# Altium footprint library ICs.PcbLib: 32 footprints (part 2 of 2)
Each footprint in its own frame and in the unit in brackets; x right, y up, seen from the top. Pads: shape width x height; smd on the part's side, far side on the other; paste and mask are expansions set on the pad; w line width, h text height; cw(c..) or ccw(c..) is an arc to the next point about the centre after c.
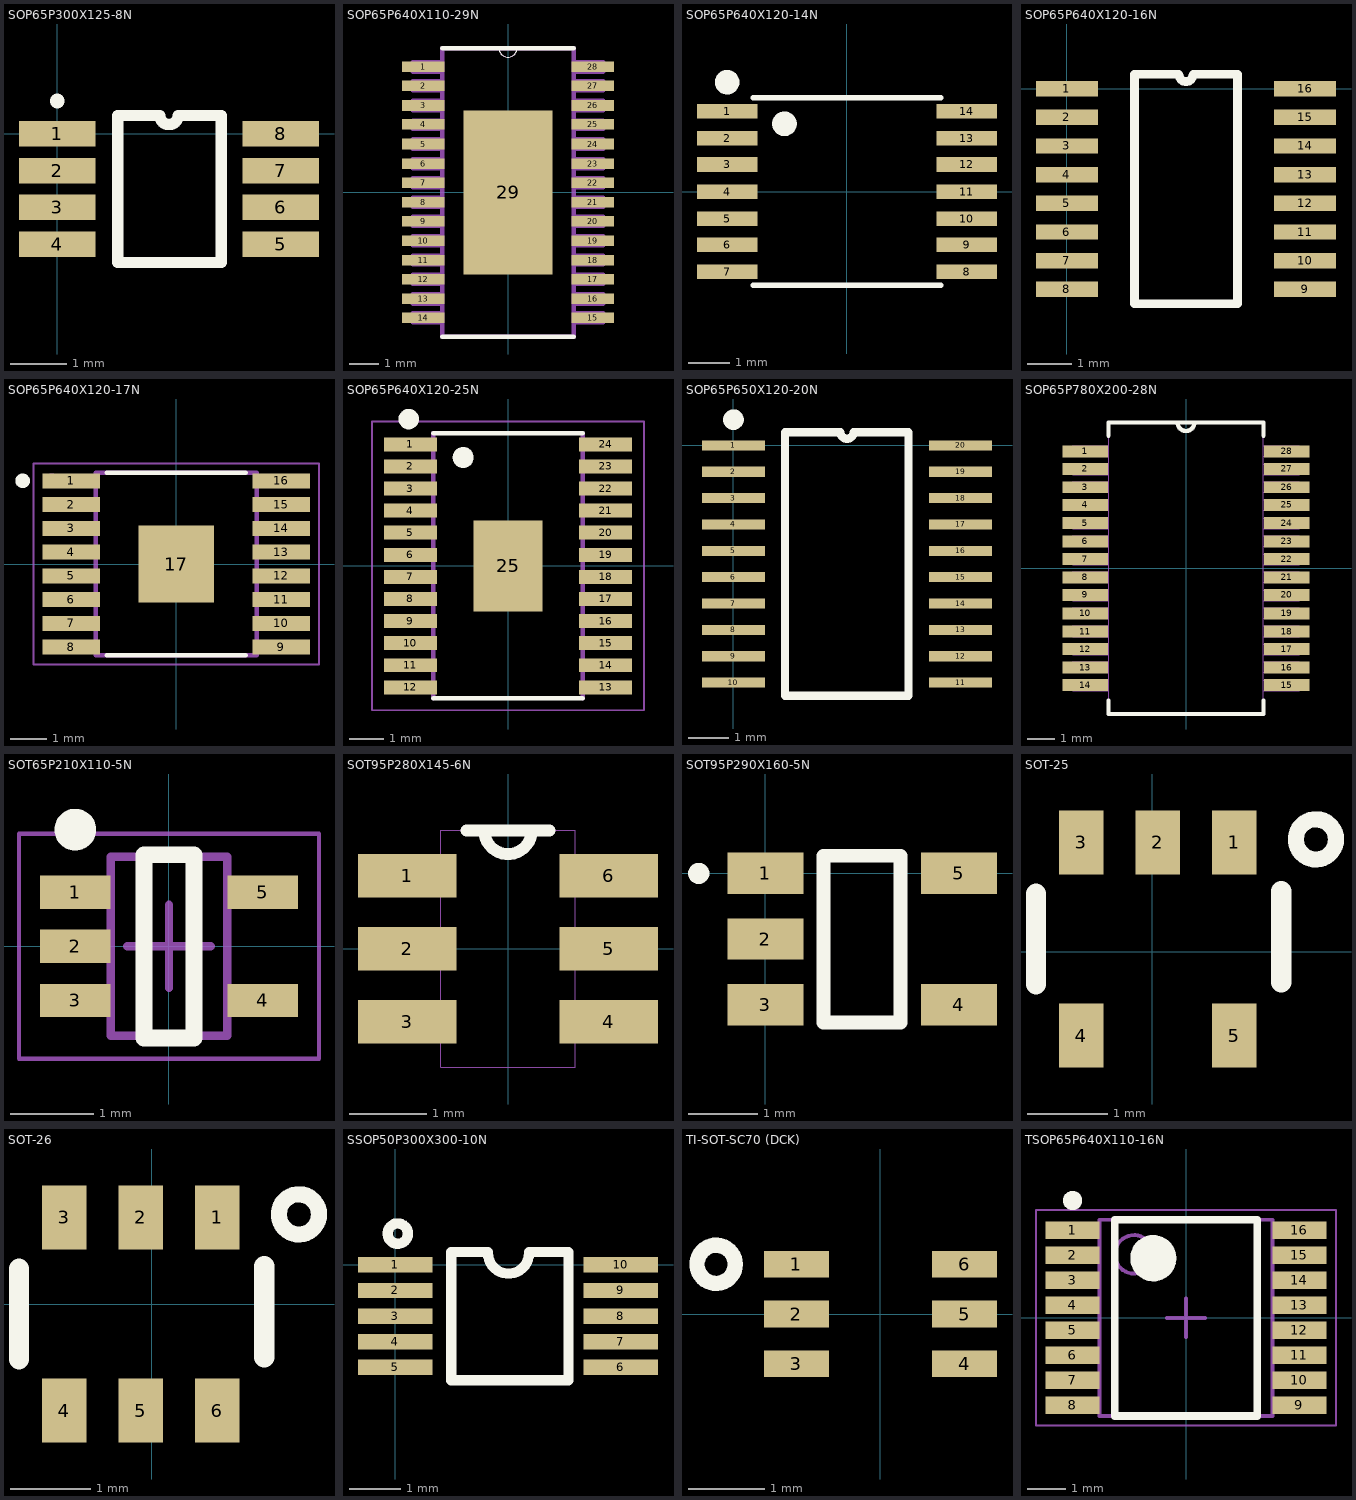
[diagram p1: the footprints below, top view; thin cyan lines are the x and y axes]

## SOP65P300X125-8N [mm] "SOP + Pitch P + Lead Span Nominal X Height - #Pins"
height 1.25
pads (8):
  rect 1.35x0.45 smd: 1(0,0) 2(0,-0.65) 3(0,-1.3) 4(0,-1.95) 5(3.95,-1.95) 6(3.95,-1.3) 7(3.95,-0.65) 8(3.95,0)
Top Overlay:
  lines w0.2: 1.067,-2.275 1.067,0.325 1.813,0.325 ccw(c1.975,0.325) 2.137,0.325 2.896,0.325 2.896,-2.275 1.067,-2.275
  lines w0.254: -0.002,0.573 ccw(c-0.036,0.584) 0,0.584
3D body "RM_8.stp": height 0.95, standoff 0, extent -0.644,-2.465 4.506,0.535

## SOP65P640X110-29N [mil] "SOP+Pitch P+Lead Span Nominal X Height - #Pins"
height 47.24
pads (29):
  rect 56x14 smd: 1(-112,166) 2(-112,141) 3(-112,115) 4(-112,90) 5(-112,64) 6(-112,38) 7(-112,13) 8(-112,-13) 9(-112,-38) 10(-112,-64) 11(-112,-90) 12(-112,-115) 13(-112,-141) 14(-112,-166) 15(112,-166) 16(112,-141) 17(112,-115) 18(112,-90) 19(112,-64) 20(112,-38) 21(112,-13) 22(112,13) 23(112,38) 24(112,64) 25(112,90) 26(112,115) 27(112,141) 28(112,166)
  rect 118x217 smd: 29(0,0)
Top Overlay:
  lines w0: -12,191 ccw(c0,191) 12,191
  lines w6: -87,-191 87,-191 ; -87,191 -12,191 12,191 87,191
Mechanical 13:
  drawing of 238 lines, arcs and shapes, not listed

## SOP65P640X120-14N [mil] "SOP + Pitch P + Lead Span Nominal X Height - #Pins"
height 47.24
pads (14):
  rect 58x14 smd: 1(-115,77) 2(-115,51) 3(-115,26) 4(-115,0) 5(-115,-26) 6(-115,-51) 7(-115,-77) 8(115,-77) 9(115,-51) 10(115,-26) 11(115,0) 12(115,26) 13(115,51) 14(115,77)
Top Overlay:
  circle w11.81: c-115,105 r5.91
  circle w11.81: c-60,65 r5.91
  lines w5: -90,-90 90,-90 ; -90,90 90,90
3D body "PW14.stp": height 47.09, standoff 0, extent -129.99,-100.5 130.01,100.52

## SOP65P640X120-16N [mm] "SOP + Pitch P + Lead Span Nominal X Height - #Pins"
height 1.08
pads (16):
  rect 1.4x0.35 smd: 1(0,0) 2(0,-0.65) 3(0,-1.3) 4(0,-1.95) 5(0,-2.6) 6(0,-3.25) 7(0,-3.9) 8(0,-4.55) 9(5.4,-4.55) 10(5.4,-3.9) 11(5.4,-3.25) 12(5.4,-2.6) 13(5.4,-1.95) 14(5.4,-1.3) 15(5.4,-0.65) 16(5.4,0)
Top Overlay:
  lines w0.2: 1.535,-4.875 3.865,-4.875 3.865,0.325 2.862,0.325 cw(c2.7,0.325) 2.538,0.325 1.535,0.325 1.535,-4.875
3D body "SOP65P640X120-16N.stp": height 1.2, standoff 0, extent -0.61,-4.839 5.994,0.267

## SOP65P640X120-17N [mm] "Standard SOP package with PowerPAD"
height 1.2
pads (17):
  rect 1.57x0.41 smd: 1(-2.87,2.275) 2(-2.87,1.625) 3(-2.87,0.975) 4(-2.87,0.325) 5(-2.87,-0.325) 6(-2.87,-0.975) 7(-2.87,-1.625) 8(-2.87,-2.275) 9(2.87,-2.275) 10(2.87,-1.625) 11(2.87,-0.975) 12(2.87,-0.325) 13(2.87,0.325) 14(2.87,0.975) 15(2.87,1.625) 16(2.87,2.275)
  rect 2.07x2.105 smd: 17(0,0)
Top Overlay:
  circle w0.2: c-4.2,2.275 r0.1
  lines w0.127: -1.9,-2.5 1.9,-2.5 ; -1.9,2.5 1.9,2.5
Top Paste:
  region: -0.655,0.665 0.655,0.665 0.655,-0.665 -0.655,-0.665
Mechanical 13:
  circle w0.2: c-3.4,2.275 r0.1
  circle w0.2: c-3.4,2.275 r0.1
  lines w0.127: -2.2,-2.5 2.2,-2.5 ; -2.2,-2.5 -2.2,2.5 ; -2.2,-2.5 2.2,-2.5 ; -2.2,-2.5 -2.2,2.5 ; -2.2,2.5 2.2,2.5 ; -2.2,2.5 2.2,2.5 ; 2.2,-2.5 2.2,2.5 ; 2.2,-2.5 2.2,2.5
Mechanical 15:
  lines w0.05: -3.905,-2.75 3.905,-2.75 3.905,2.75 -3.905,2.75 -3.905,-2.75

## SOP65P640X120-25N [mm] "SOP + Pitch P + Lead Span Nominal X Height - #Pins"
height 1.2
pads (25):
  rect 1.57x0.41 smd: 1(-2.87,3.575) 2(-2.87,2.925) 3(-2.87,2.275) 4(-2.87,1.625) 5(-2.87,0.975) 6(-2.87,0.325) 7(-2.87,-0.325) 8(-2.87,-0.975) 9(-2.87,-1.625) 10(-2.87,-2.275) 11(-2.87,-2.925) 12(-2.87,-3.575) 13(2.87,-3.575) 14(2.87,-2.925) 15(2.87,-2.275) 16(2.87,-1.625) 17(2.87,-0.975) 18(2.87,-0.325) 19(2.87,0.325) 20(2.87,0.975) 21(2.87,1.625) 22(2.87,2.275) 23(2.87,2.925) 24(2.87,3.575)
  rect 2.025x2.68 smd: 25(0,0)
Top Overlay:
  circle w0.127: c-1.32,3.19 r0.156
  circle w0.127: c-1.32,3.19 r0.11
  circle w0.127: c-1.43,3.19 r0.11
  circle w0.127: c-1.43,3.19 r0.11
  circle w0.127: c-1.32,3.19 r0.246
  circle w0.3: c-2.921,4.318 r0.15
  lines w0.127: -2.2,-3.9 2.2,-3.9 ; -2.2,3.9 2.2,3.9
Top Paste:
  region: -0.11,0.11 -0.791,0.11 -0.791,1.11 -0.11,1.11
  region: 0.11,-0.11 0.79,-0.11 0.79,-1.113 0.11,-1.113
  region: -0.792,-0.11 -0.11,-0.11 -0.11,-1.112 -0.792,-1.112
  region: 0.11,1.11 0.79,1.11 0.79,0.11 0.11,0.11
Mechanical 1:
  lines w0.05: -4,-4.25 4,-4.25 4,4.25 -4,4.25 -4,-4.25
  lines w0.127: -2.2,-3.9 -2.2,3.9 ; 2.2,-3.9 2.2,3.9

## SOP65P650X120-20N [mm] "SOP + Pitch P + Lead Span Nominal X Height - #Pins"
height 1.2
pads (20):
  rect 1.55x0.25 smd: 1(0,0) 2(0,-0.65) 3(0,-1.3) 4(0,-1.95) 5(0,-2.6) 6(0,-3.25) 7(0,-3.9) 8(0,-4.55) 9(0,-5.2) 10(0,-5.85) 11(5.6,-5.85) 12(5.6,-5.2) 13(5.6,-4.55) 14(5.6,-3.9) 15(5.6,-3.25) 16(5.6,-2.6) 17(5.6,-1.95) 18(5.6,-1.3) 19(5.6,-0.65) 20(5.6,0)
Top Overlay:
  circle w0.254: c0,0.635 r0.127
  lines w0.2: 1.27,-6.175 4.318,-6.175 4.318,0.325 2.962,0.325 cw(c2.8,0.325) 2.638,0.325 1.27,0.325 1.27,-6.175
3D body "PW20.stp": height 1.2, standoff 0, extent -0.508,-6.223 6.096,0.381

## SOP65P780X200-28N [mil] "SOP + Pitch P + Lead Span Nominal X Height - #Pins"
height 78.74
pads (28):
  rect 65x17 smd: 1(-143,166) 2(-143,141) 3(-143,115) 4(-143,90) 5(-143,64) 6(-143,38) 7(-143,13) 8(-143,-13) 9(-143,-38) 10(-143,-64) 11(-143,-90) 12(-143,-115) 13(-143,-141) 14(-143,-166) 15(143,-166) 16(143,-141) 17(143,-115) 18(143,-90) 19(143,-64) 20(143,-38) 21(143,-13) 22(143,13) 23(143,38) 24(143,64) 25(143,90) 26(143,115) 27(143,141) 28(143,166)
Top Overlay:
  lines w6: -110,-188 -110,-207 110,-207 110,-188 ; -110,188 -110,207 -12,207 ; 110,188 110,207 12,207 ; -12,207 ccw(c0,207) 12,207 ; -12,207 12,207
Mechanical 1:
  lines w0: -12,207 ccw(c0,207) 12,207 ; -12,207 -110,207 -110,-207 110,-207 110,207 12,207 ; -12,207 12,207 ; -161,-174 -110,-174 -110,-159 -161,-159 -161,-174 ; -161,-148 -110,-148 -110,-133 -161,-133 -161,-148 ; -161,-123 -110,-123 -110,-108 -161,-108 -161,-123 ; -161,-97 -110,-97 -110,-82 -161,-82 -161,-97 ; -161,-71 -110,-71 -110,-56 -161,-56 -161,-71 ; -161,-46 -110,-46 -110,-31 -161,-31 -161,-46 ; -161,-20 -110,-20 -110,-5 -161,-5 -161,-20 ; -161,5 -110,5 -110,20 -161,20 -161,5 ; -161,31 -110,31 -110,46 -161,46 -161,31 ; -161,56 -110,56 -110,71 -161,71 -161,56 ; -161,82 -110,82 -110,97 -161,97 -161,82 ; -161,108 -110,108 -110,123 -161,123 -161,108 ; -161,133 -110,133 -110,148 -161,148 -161,133 ; -161,159 -110,159 -110,174 -161,174 -161,159 ; 110,-174 161,-174 161,-159 110,-159 110,-174 ; 110,-148 161,-148 161,-133 110,-133 110,-148 ; 110,-123 161,-123 161,-108 110,-108 110,-123 ; 110,-97 161,-97 161,-82 110,-82 110,-97 ; 110,-71 161,-71 161,-56 110,-56 110,-71 ; 110,-46 161,-46 161,-31 110,-31 110,-46 ; 110,-20 161,-20 161,-5 110,-5 110,-20 ; 110,5 161,5 161,20 110,20 110,5 ; 110,31 161,31 161,46 110,46 110,31 ; 110,56 161,56 161,71 110,71 110,56 ; 110,82 161,82 161,97 110,97 110,82 ; 110,108 161,108 161,123 110,123 110,108 ; 110,133 161,133 161,148 110,148 110,133 ; 110,159 161,159 161,174 110,174 110,159
3D body "SSOP28_MC.stp": height 78.86, standoff 0, extent -161.41,-206.69 161.43,206.7

## SOT65P210X110-5N [mm] "SOT23, 5-Leads, Body 2.00x2.10mm, Pitch 0.65mm, IPC Medium Density"
height 1.1
pads (5):
  rect 0.85x0.4 smd: 1(-1.125,0.65) 2(-1.125,0) 3(-1.125,-0.65) 4(1.125,-0.65) 5(1.125,0.65)
Top Overlay:
  circle w0.25: c-1.125,1.4 r0.125
  lines w0.2: -0.3,-1.1 0.3,-1.1 0.3,1.1 -0.3,1.1 -0.3,-1.1
Mechanical 13:
  lines w0.1: -0.7,-1.075 -0.7,1.075 0.7,1.075 0.7,-1.075 -0.7,-1.075
Mechanical 15:
  lines w0.05: -1.8,-1.35 -1.8,1.35 1.8,1.35 1.8,-1.35 -1.8,-1.35
  lines w0.1: -0.5,0 0.5,0 ; 0,-0.5 0,0.5
3D body "SOT65P210X110-5N.step": height 1.1, standoff 0, extent -1.2,-1.075 1.2,1.075

## SOT95P280X145-6N [mil] "SOT + Pitch P + Nominal Lead Length X Height - #Pins"
height 57.09
pads (6):
  rect 50x22 smd: 1(-51,37) 2(-51,0) 3(-51,-37) 4(51,-37) 5(51,0) 6(51,37)
Top Overlay:
  lines w6: -21,60 -12,60 ; 21,60 12,60 ; -12,60 ccw(c0,60) 12,60 ; -12,60 12,60
Mechanical 1:
  lines w0: -34,-47 -59,-47 -59,-28 -34,-28 ; -34,-47 -34,-28 ; -34,-47 -34,-60 34,-60 34,-47 ; -34,-28 -34,-10 ; -34,-10 -59,-10 -59,10 -34,10 ; -34,-10 -34,10 ; -34,10 -34,28 ; -34,28 -59,28 -59,47 -34,47 ; -34,28 -34,47 ; -34,47 -34,60 -12,60 ; -12,60 ccw(c0,60) 12,60 ; -12,60 12,60 ; 12,60 34,60 34,47 ; 34,-47 59,-47 59,-28 34,-28 ; 34,-47 34,-28 ; 34,-28 34,-10 ; 34,-10 59,-10 59,10 34,10 ; 34,-10 34,10 ; 34,10 34,28 ; 34,28 59,28 59,47 34,47 ; 34,28 34,47
3D body: height 57.09, standoff 0, extent 0,0 0,0
3D body "SOT95P280X145-6N.step": height 57.09, standoff 0, extent -59.05,-60.03 59.06,60.04

## SOT95P290X160-5N [mm] "SOT + Pitch P + Nominal Lead Length X Height - #Pins"
height 1.6
pads (5):
  rect 1.1x0.6 smd: 1(0,0) 2(0,-0.95) 3(0,-1.9) 4(2.8,-1.9) 5(2.8,0)
Top Overlay:
  circle w0.254: c-0.965,0 r0.025
  lines w0.2: 0.838,-2.159 1.956,-2.159 1.956,0.254 1.727,0.254 1.092,0.254 0.838,0.254 0.838,-2.159
3D body "UJ_5.stp": height 0.99, standoff 0, extent 0,-2.388 2.794,0.508

## SOT-25 [mm]
height 1.3
pads (5):
  rect 0.55x0.8 smd: 1(1.016,1.359) 2(0.066,1.359) 3(-0.884,1.359) 4(-0.884,-1.041) 5(1.016,-1.041)
Top Overlay:
  circle w0.2: c2.032,1.397 r0.25
  lines w0.254: -1.448,-0.406 -1.448,0.724 ; 1.6,-0.381 1.6,0.754
3D body "SOT23_5.stp": height 0.92, standoff 0.01, extent -1.425,-1.45 1.575,1.755

## SOT-26 [mm]
height 1.3
pads (6):
  rect 0.55x0.8 smd: 1(0.813,1.079) 2(-0.137,1.079) 3(-1.087,1.079) 4(-1.087,-1.321) 5(-0.137,-1.321) 6(0.813,-1.321)
Top Overlay:
  circle w0.2: c1.829,1.118 r0.25
  lines w0.254: -1.651,-0.686 -1.651,0.444 ; 1.397,-0.66 1.397,0.475
3D body "SOT-26.step": height 1.4, standoff 0, extent -1.687,-1.62 1.413,1.38

## SSOP50P300X300-10N [mm] "Footprint is labelled incorrectly, should be SSOP + Pitch P + Nominal Lead Length X Height - #Pins"
pads (10):
  rect 1.45x0.3 smd: 1(0,0) 2(0,-0.5) 3(0,-1) 4(0,-1.5) 5(0,-2) 6(4.4,-2) 7(4.4,-1.5) 8(4.4,-1) 9(4.4,-0.5) 10(4.4,0)
Top Overlay:
  circle w0.2: c0.051,0.61 r0.198
  lines w0.2: 1.803,0.25 1.092,0.25 1.092,-2.25 3.378,-2.25 3.378,0.25 2.616,0.25 ; 1.81,0.229 ccw(c2.21,0.229) 2.61,0.229
3D body "DGS10.stp": height 1.09, standoff 0, extent -0.292,-2.565 4.762,0.533

## TI-SOT-SC70 (DCK) [mm] "IC CURR SENSE 1 CIRCUIT SC70-6"
height 0.95
pads (6):
  rect 0.85x0.35 smd: 1(-1.1,0.65) 2(-1.1,0) 3(-1.1,-0.65) 4(1.1,-0.65) 5(1.1,0) 6(1.1,0.65)
Top Overlay:
  circle w0.2: c-2.15,0.65 r0.25
3D body "DCK0006A.stp": height 1, standoff 0, extent -1.05,-1 1.05,1

## TSOP65P640X110-16N [mm] "TSOP, 16-Leads, Body 5.00x4.40mm, Pitch 0.65mm, IPC Medium Density"
height 1.1
pads (16):
  rect 1.4x0.45 smd: 1(-2.95,2.275) 2(-2.95,1.625) 3(-2.95,0.975) 4(-2.95,0.325) 5(-2.95,-0.325) 6(-2.95,-0.975) 7(-2.95,-1.625) 8(-2.95,-2.275) 9(2.95,-2.275) 10(2.95,-1.625) 11(2.95,-0.975) 12(2.95,-0.325) 13(2.95,0.325) 14(2.95,0.975) 15(2.95,1.625) 16(2.95,2.275)
Top Overlay:
  circle w0.25: c-2.95,3.05 r0.125
  circle w0.6: c-0.85,1.55 r0.3
  lines w0.2: -1.85,-2.55 -1.85,2.55 1.85,2.55 1.85,-2.55 -1.85,-2.55
Mechanical 13:
  circle w0.1: c-1.35,1.65 r0.5
  lines w0.1: -2.25,-2.55 -2.25,2.55 2.25,2.55 2.25,-2.55 -2.25,-2.55
Mechanical 15:
  lines w0.05: -3.9,-2.8 -3.9,2.8 3.9,2.8 3.9,-2.8 -3.9,-2.8
  lines w0.1: -0.5,0 0.5,0 ; 0,-0.5 0,0.5
3D body "TSOP65P640X110-16N.step": height 1.1, standoff 0, extent -3.2,-2.55 3.2,2.55